# Altium footprint library Connector_PinSocket_2.00mm.PcbLib: 278 footprints (part 10 of 18)
Each footprint in its own frame and in the unit in brackets; x right, y up, seen from the top. Pads: shape width x height; smd on the part's side, far side on the other; paste and mask are expansions set on the pad; w line width, h text height; cw(c..) or ccw(c..) is an arc to the next point about the centre after c.
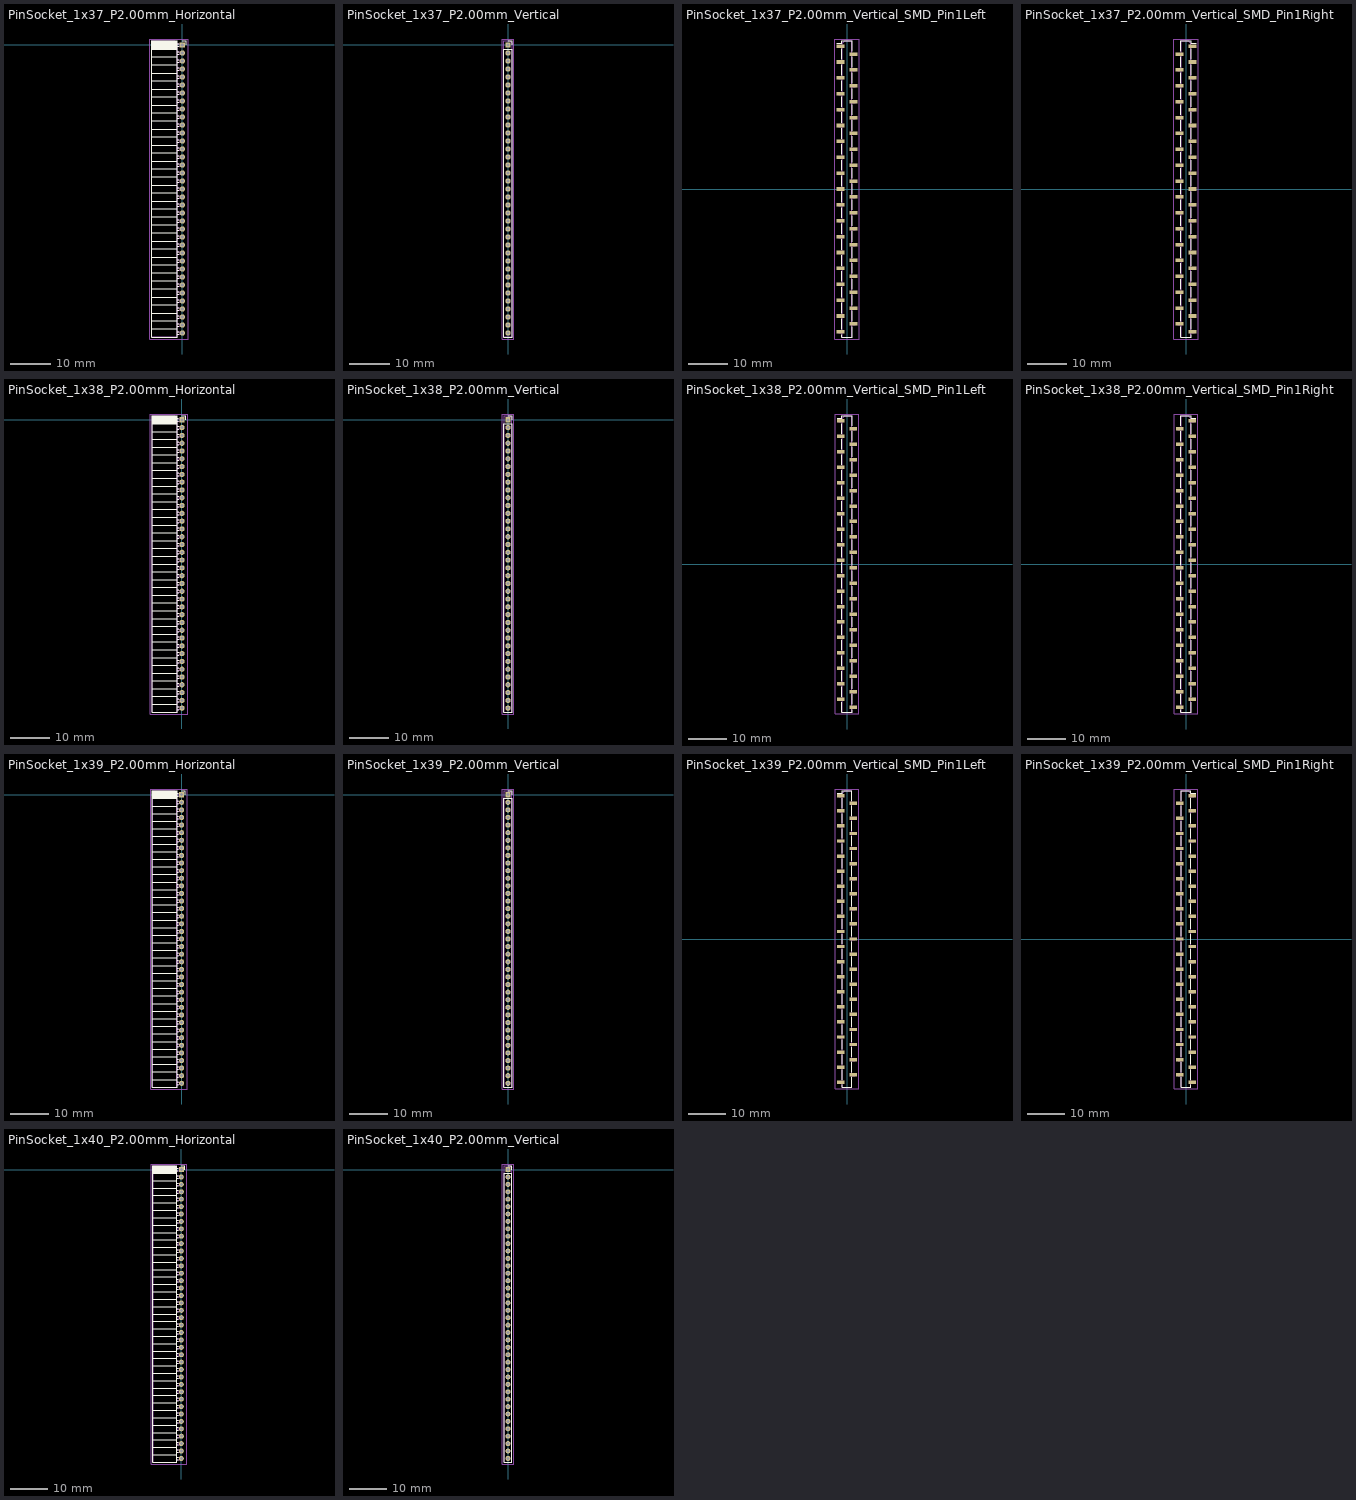
[diagram p9: the footprints below, top view; thin cyan lines are the x and y axes]

## PinSocket_1x37_P2.00mm_Horizontal [mm]
pads (37):
  rect 1.35x1.35 hole 0.8: 1(0,0)
  round 1.35 hole 0.8: 2(0,-2) 3(0,-4) 4(0,-6) 5(0,-8) 6(0,-10) 7(0,-12) 8(0,-14) 9(0,-16) 10(0,-18) 11(0,-20) 12(0,-22) 13(0,-24) 14(0,-26) 15(0,-28) 16(0,-30) 17(0,-32) 18(0,-34) 19(0,-36) 20(0,-38) 21(0,-40) 22(0,-42) 23(0,-44) 24(0,-46) 25(0,-48) 26(0,-50) 27(0,-52) 28(0,-54) 29(0,-56) 30(0,-58) 31(0,-60) 32(0,-62) 33(0,-64) 34(0,-66) 35(0,-68) 36(0,-70) 37(0,-72)
F.SilkS:
  lines w0.254: -7.68,-71 -1.21,-71 ; -7.68,-69 -1.21,-69 ; -7.68,-67 -1.21,-67 ; -7.68,-65 -1.21,-65 ; -7.68,-63 -1.21,-63 ; -7.68,-61 -1.21,-61 ; -7.68,-59 -1.21,-59 ; -7.68,-57 -1.21,-57 ; -7.68,-55 -1.21,-55 ; -7.68,-53 -1.21,-53 ; -7.68,-51 -1.21,-51 ; -7.68,-49 -1.21,-49 ; -7.68,-47 -1.21,-47 ; -7.68,-45 -1.21,-45 ; -7.68,-43 -1.21,-43 ; -7.68,-41 -1.21,-41 ; -7.68,-39 -1.21,-39 ; -7.68,-37 -1.21,-37 ; -7.68,-35 -1.21,-35 ; -7.68,-33 -1.21,-33 ; -7.68,-31 -1.21,-31 ; -7.68,-29 -1.21,-29 ; -7.68,-27 -1.21,-27 ; -7.68,-25 -1.21,-25 ; -7.68,-23 -1.21,-23 ; -7.68,-21 -1.21,-21 ; -7.68,-19 -1.21,-19 ; -7.68,-17 -1.21,-17 ; -7.68,-15 -1.21,-15 ; -7.68,-13 -1.21,-13 ; -7.68,-11 -1.21,-11 ; -7.68,-9 -1.21,-9 ; -7.68,-7 -1.21,-7 ; -7.68,-5 -1.21,-5 ; -7.68,-3 -1.21,-3 ; -7.68,-1 -1.21,-1 ; -7.68,-0.886 -1.21,-0.886 ; -7.68,-0.772 -1.21,-0.772 ; -7.68,-0.658 -1.21,-0.658 ; -7.68,-0.544 -1.21,-0.544 ; -7.68,-0.429 -1.21,-0.429 ; -7.68,-0.315 -1.21,-0.315 ; -7.68,-0.201 -1.21,-0.201 ; -7.68,-0.087 -1.21,-0.087 ; -7.68,0.027 -1.21,0.027 ; -7.68,0.141 -1.21,0.141 ; -7.68,0.255 -1.21,0.255 ; -7.68,0.369 -1.21,0.369 ; -7.68,0.484 -1.21,0.484 ; -7.68,0.598 -1.21,0.598 ; -7.68,0.712 -1.21,0.712 ; -7.68,0.826 -1.21,0.826 ; -7.68,0.94 -1.21,0.94 ; -1.21,-72.36 -0.863,-72.36 ; -1.21,-71.64 -0.863,-71.64 ; -1.21,-70.36 -0.863,-70.36 ; -1.21,-69.64 -0.863,-69.64 ; -1.21,-68.36 -0.863,-68.36 ; -1.21,-67.64 -0.863,-67.64 ; -1.21,-66.36 -0.863,-66.36 ; -1.21,-65.64 -0.863,-65.64 ; -1.21,-64.36 -0.863,-64.36 ; -1.21,-63.64 -0.863,-63.64 ; -1.21,-62.36 -0.863,-62.36 ; -1.21,-61.64 -0.863,-61.64 ; -1.21,-60.36 -0.863,-60.36 ; -1.21,-59.64 -0.863,-59.64 ; -1.21,-58.36 -0.863,-58.36 ; -1.21,-57.64 -0.863,-57.64 ; -1.21,-56.36 -0.863,-56.36 ; -1.21,-55.64 -0.863,-55.64 ; -1.21,-54.36 -0.863,-54.36 ; -1.21,-53.64 -0.863,-53.64 ; -1.21,-52.36 -0.863,-52.36 ; -1.21,-51.64 -0.863,-51.64 ; -1.21,-50.36 -0.863,-50.36 ; -1.21,-49.64 -0.863,-49.64 ; -1.21,-48.36 -0.863,-48.36 ; -1.21,-47.64 -0.863,-47.64 ; -1.21,-46.36 -0.863,-46.36 ; -1.21,-45.64 -0.863,-45.64 ; -1.21,-44.36 -0.863,-44.36 ; -1.21,-43.64 -0.863,-43.64 ; -1.21,-42.36 -0.863,-42.36 ; -1.21,-41.64 -0.863,-41.64 ; -1.21,-40.36 -0.863,-40.36 ; -1.21,-39.64 -0.863,-39.64 ; -1.21,-38.36 -0.863,-38.36 ; -1.21,-37.64 -0.863,-37.64 ; -1.21,-36.36 -0.863,-36.36 ; -1.21,-35.64 -0.863,-35.64 ; -1.21,-34.36 -0.863,-34.36 ; -1.21,-33.64 -0.863,-33.64 ; -1.21,-32.36 -0.863,-32.36 ; -1.21,-31.64 -0.863,-31.64 ; -1.21,-30.36 -0.863,-30.36 ; -1.21,-29.64 -0.863,-29.64 ; -1.21,-28.36 -0.863,-28.36 ; -1.21,-27.64 -0.863,-27.64 ; -1.21,-26.36 -0.863,-26.36 ; -1.21,-25.64 -0.863,-25.64 ; -1.21,-24.36 -0.863,-24.36 ; -1.21,-23.64 -0.863,-23.64 ; -1.21,-22.36 -0.863,-22.36 ; -1.21,-21.64 -0.863,-21.64 ; -1.21,-20.36 -0.863,-20.36 ; -1.21,-19.64 -0.863,-19.64 ; -1.21,-18.36 -0.863,-18.36 ; -1.21,-17.64 -0.863,-17.64 ; -1.21,-16.36 -0.863,-16.36 ; -1.21,-15.64 -0.863,-15.64 ; -1.21,-14.36 -0.863,-14.36 ; -1.21,-13.64 -0.863,-13.64 ; -1.21,-12.36 -0.863,-12.36 ; -1.21,-11.64 -0.863,-11.64 ; -1.21,-10.36 -0.863,-10.36 ; -1.21,-9.64 -0.863,-9.64 ; -1.21,-8.36 -0.863,-8.36 ; -1.21,-7.64 -0.863,-7.64 ; -1.21,-6.36 -0.863,-6.36 ; -1.21,-5.64 -0.863,-5.64 ; -1.21,-4.36 -0.863,-4.36 ; -1.21,-3.64 -0.863,-3.64 ; -1.21,-2.36 -0.863,-2.36 ; -1.21,-1.64 -0.863,-1.64 ; -1.21,-0.36 -0.935,-0.36 ; -1.21,0.36 -0.935,0.36 ; 0,1.06 0.935,1.06 0.935,0 ; -7.68,-73.06 -1.21,-73.06 -1.21,1.06 -7.68,1.06 -7.68,-73.06
Top Assembly:
  lines w0.254: -1.27,-72.3 0,-72.3 0,-71.7 -1.27,-71.7 ; -1.27,-70.3 0,-70.3 0,-69.7 -1.27,-69.7 ; -1.27,-68.3 0,-68.3 0,-67.7 -1.27,-67.7 ; -1.27,-66.3 0,-66.3 0,-65.7 -1.27,-65.7 ; -1.27,-64.3 0,-64.3 0,-63.7 -1.27,-63.7 ; -1.27,-62.3 0,-62.3 0,-61.7 -1.27,-61.7 ; -1.27,-60.3 0,-60.3 0,-59.7 -1.27,-59.7 ; -1.27,-58.3 0,-58.3 0,-57.7 -1.27,-57.7 ; -1.27,-56.3 0,-56.3 0,-55.7 -1.27,-55.7 ; -1.27,-54.3 0,-54.3 0,-53.7 -1.27,-53.7 ; -1.27,-52.3 0,-52.3 0,-51.7 -1.27,-51.7 ; -1.27,-50.3 0,-50.3 0,-49.7 -1.27,-49.7 ; -1.27,-48.3 0,-48.3 0,-47.7 -1.27,-47.7 ; -1.27,-46.3 0,-46.3 0,-45.7 -1.27,-45.7 ; -1.27,-44.3 0,-44.3 0,-43.7 -1.27,-43.7 ; -1.27,-42.3 0,-42.3 0,-41.7 -1.27,-41.7 ; -1.27,-40.3 0,-40.3 0,-39.7 -1.27,-39.7 ; -1.27,-38.3 0,-38.3 0,-37.7 -1.27,-37.7 ; -1.27,-36.3 0,-36.3 0,-35.7 -1.27,-35.7 ; -1.27,-34.3 0,-34.3 0,-33.7 -1.27,-33.7 ; -1.27,-32.3 0,-32.3 0,-31.7 -1.27,-31.7 ; -1.27,-30.3 0,-30.3 0,-29.7 -1.27,-29.7 ; -1.27,-28.3 0,-28.3 0,-27.7 -1.27,-27.7 ; -1.27,-26.3 0,-26.3 0,-25.7 -1.27,-25.7 ; -1.27,-24.3 0,-24.3 0,-23.7 -1.27,-23.7 ; -1.27,-22.3 0,-22.3 0,-21.7 -1.27,-21.7 ; -1.27,-20.3 0,-20.3 0,-19.7 -1.27,-19.7 ; -1.27,-18.3 0,-18.3 0,-17.7 -1.27,-17.7 ; -1.27,-16.3 0,-16.3 0,-15.7 -1.27,-15.7 ; -1.27,-14.3 0,-14.3 0,-13.7 -1.27,-13.7 ; -1.27,-12.3 0,-12.3 0,-11.7 -1.27,-11.7 ; -1.27,-10.3 0,-10.3 0,-9.7 -1.27,-9.7 ; -1.27,-8.3 0,-8.3 0,-7.7 -1.27,-7.7 ; -1.27,-6.3 0,-6.3 0,-5.7 -1.27,-5.7 ; -1.27,-4.3 0,-4.3 0,-3.7 -1.27,-3.7 ; -1.27,-2.3 0,-2.3 0,-1.7 -1.27,-1.7 ; -1.27,-0.3 0,-0.3 0,0.3 -1.27,0.3 ; -1.27,0.3 -1.27,-73 -7.62,-73 -7.62,1 -1.97,1 -1.27,0.3
  text "'.Designator'" at -3.605,-40.047 h1
Top Courtyard:
  lines w0.254: -8.15,-73.5 1.5,-73.5 1.5,1.5 -8.15,1.5 -8.15,-73.5
Top Designator:
  text ".Designator" at -10.943,-36.508 h1.52

## PinSocket_1x37_P2.00mm_Vertical [mm]
pads (37):
  rect 1.35x1.35 hole 0.8: 1(0,0)
  round 1.35 hole 0.8: 2(0,-2) 3(0,-4) 4(0,-6) 5(0,-8) 6(0,-10) 7(0,-12) 8(0,-14) 9(0,-16) 10(0,-18) 11(0,-20) 12(0,-22) 13(0,-24) 14(0,-26) 15(0,-28) 16(0,-30) 17(0,-32) 18(0,-34) 19(0,-36) 20(0,-38) 21(0,-40) 22(0,-42) 23(0,-44) 24(0,-46) 25(0,-48) 26(0,-50) 27(0,-52) 28(0,-54) 29(0,-56) 30(0,-58) 31(0,-60) 32(0,-62) 33(0,-64) 34(0,-66) 35(0,-68) 36(0,-70) 37(0,-72)
F.SilkS:
  lines w0.254: 0,1.06 1.06,1.06 1.06,0 ; -1.06,-73.06 1.06,-73.06 1.06,-1 -1.06,-1 -1.06,-73.06
Top Assembly:
  lines w0.254: -1,-73 1,-73 1,0.5 0.5,1 -1,1 -1,-73
  text "'.Designator'" at 0.84,-40.047 h1
Top Courtyard:
  lines w0.254: -1.5,-73.5 1.5,-73.5 1.5,1.5 -1.5,1.5 -1.5,-73.5
Top Designator:
  text ".Designator" at -7.618,-36.508 h1.52

## PinSocket_1x37_P2.00mm_Vertical_SMD_Pin1Left [mm]
pads (37):
  rect 2x0.9 smd: 1(-1.6,36) 2(1.6,34) 3(-1.6,32) 4(1.6,30) 5(-1.6,28) 6(1.6,26) 7(-1.6,24) 8(1.6,22) 9(-1.6,20) 10(1.6,18) 11(-1.6,16) 12(1.6,14) 13(-1.6,12) 14(1.6,10) 15(-1.6,8) 16(1.6,6) 17(-1.6,4) 18(1.6,2) 19(-1.6,0) 20(1.6,-2) 21(-1.6,-4) 22(1.6,-6) 23(-1.6,-8) 24(1.6,-10) 25(-1.6,-12) 26(1.6,-14) 27(-1.6,-16) 28(1.6,-18) 29(-1.6,-20) 30(1.6,-22) 31(-1.6,-24) 32(1.6,-26) 33(-1.6,-28) 34(1.6,-30) 35(-1.6,-32) 36(1.6,-34) 37(-1.6,-36)
F.SilkS:
  lines w0.254: -2.54,36.71 -1.31,36.71 -1.31,37.36 1.31,37.36 1.31,34.71 ; -1.31,-36.71 -1.31,-37.36 1.31,-37.36 1.31,-34.71 ; -1.31,-35.29 -1.31,-32.71 ; -1.31,-31.29 -1.31,-28.71 ; -1.31,-27.29 -1.31,-24.71 ; -1.31,-23.29 -1.31,-20.71 ; -1.31,-19.29 -1.31,-16.71 ; -1.31,-15.29 -1.31,-12.71 ; -1.31,-11.29 -1.31,-8.71 ; -1.31,-7.29 -1.31,-4.71 ; -1.31,-3.29 -1.31,-0.71 ; -1.31,0.71 -1.31,3.29 ; -1.31,4.71 -1.31,7.29 ; -1.31,8.71 -1.31,11.29 ; -1.31,12.71 -1.31,15.29 ; -1.31,16.71 -1.31,19.29 ; -1.31,20.71 -1.31,23.29 ; -1.31,24.71 -1.31,27.29 ; -1.31,28.71 -1.31,31.29 ; -1.31,32.71 -1.31,35.29 ; 1.31,-33.29 1.31,-30.71 ; 1.31,-29.29 1.31,-26.71 ; 1.31,-25.29 1.31,-22.71 ; 1.31,-21.29 1.31,-18.71 ; 1.31,-17.29 1.31,-14.71 ; 1.31,-13.29 1.31,-10.71 ; 1.31,-9.29 1.31,-6.71 ; 1.31,-5.29 1.31,-2.71 ; 1.31,-1.29 1.31,1.29 ; 1.31,2.71 1.31,5.29 ; 1.31,6.71 1.31,9.29 ; 1.31,10.71 1.31,13.29 ; 1.31,14.71 1.31,17.29 ; 1.31,18.71 1.31,21.29 ; 1.31,22.71 1.31,25.29 ; 1.31,26.71 1.31,29.29 ; 1.31,30.71 1.31,33.29
Top Assembly:
  lines w0.254: -1.25,-36.25 -2.1,-36.25 -2.1,-35.75 -1.25,-35.75 ; -1.25,-32.25 -2.1,-32.25 -2.1,-31.75 -1.25,-31.75 ; -1.25,-28.25 -2.1,-28.25 -2.1,-27.75 -1.25,-27.75 ; -1.25,-24.25 -2.1,-24.25 -2.1,-23.75 -1.25,-23.75 ; -1.25,-20.25 -2.1,-20.25 -2.1,-19.75 -1.25,-19.75 ; -1.25,-16.25 -2.1,-16.25 -2.1,-15.75 -1.25,-15.75 ; -1.25,-12.25 -2.1,-12.25 -2.1,-11.75 -1.25,-11.75 ; -1.25,-8.25 -2.1,-8.25 -2.1,-7.75 -1.25,-7.75 ; -1.25,-4.25 -2.1,-4.25 -2.1,-3.75 -1.25,-3.75 ; -1.25,-0.25 -2.1,-0.25 -2.1,0.25 -1.25,0.25 ; -1.25,3.75 -2.1,3.75 -2.1,4.25 -1.25,4.25 ; -1.25,7.75 -2.1,7.75 -2.1,8.25 -1.25,8.25 ; -1.25,11.75 -2.1,11.75 -2.1,12.25 -1.25,12.25 ; -1.25,15.75 -2.1,15.75 -2.1,16.25 -1.25,16.25 ; -1.25,19.75 -2.1,19.75 -2.1,20.25 -1.25,20.25 ; -1.25,23.75 -2.1,23.75 -2.1,24.25 -1.25,24.25 ; -1.25,27.75 -2.1,27.75 -2.1,28.25 -1.25,28.25 ; -1.25,31.75 -2.1,31.75 -2.1,32.25 -1.25,32.25 ; -1.25,35.75 -2.1,35.75 -2.1,36.25 -1.25,36.25 ; 1.25,-34.25 2.1,-34.25 2.1,-33.75 1.25,-33.75 ; 1.25,-30.25 2.1,-30.25 2.1,-29.75 1.25,-29.75 ; 1.25,-26.25 2.1,-26.25 2.1,-25.75 1.25,-25.75 ; 1.25,-22.25 2.1,-22.25 2.1,-21.75 1.25,-21.75 ; 1.25,-18.25 2.1,-18.25 2.1,-17.75 1.25,-17.75 ; 1.25,-14.25 2.1,-14.25 2.1,-13.75 1.25,-13.75 ; 1.25,-10.25 2.1,-10.25 2.1,-9.75 1.25,-9.75 ; 1.25,-6.25 2.1,-6.25 2.1,-5.75 1.25,-5.75 ; 1.25,-2.25 2.1,-2.25 2.1,-1.75 1.25,-1.75 ; 1.25,1.75 2.1,1.75 2.1,2.25 1.25,2.25 ; 1.25,5.75 2.1,5.75 2.1,6.25 1.25,6.25 ; 1.25,9.75 2.1,9.75 2.1,10.25 1.25,10.25 ; 1.25,13.75 2.1,13.75 2.1,14.25 1.25,14.25 ; 1.25,17.75 2.1,17.75 2.1,18.25 1.25,18.25 ; 1.25,21.75 2.1,21.75 2.1,22.25 1.25,22.25 ; 1.25,25.75 2.1,25.75 2.1,26.25 1.25,26.25 ; 1.25,29.75 2.1,29.75 2.1,30.25 1.25,30.25 ; 1.25,33.75 2.1,33.75 2.1,34.25 1.25,34.25 ; -1.25,-37.3 1.25,-37.3 1.25,37.3 -0.625,37.3 -1.25,36.675 -1.25,-37.3
  text "'.Designator'" at 0.84,-4.047 h1
Top Courtyard:
  lines w0.254: -3.1,-37.8 3.1,-37.8 3.1,37.8 -3.1,37.8 -3.1,-37.8
Top Designator:
  text ".Designator" at -7.618,-0.508 h1.52

## PinSocket_1x37_P2.00mm_Vertical_SMD_Pin1Right [mm]
pads (37):
  rect 2x0.9 smd: 1(1.6,36) 2(-1.6,34) 3(1.6,32) 4(-1.6,30) 5(1.6,28) 6(-1.6,26) 7(1.6,24) 8(-1.6,22) 9(1.6,20) 10(-1.6,18) 11(1.6,16) 12(-1.6,14) 13(1.6,12) 14(-1.6,10) 15(1.6,8) 16(-1.6,6) 17(1.6,4) 18(-1.6,2) 19(1.6,0) 20(-1.6,-2) 21(1.6,-4) 22(-1.6,-6) 23(1.6,-8) 24(-1.6,-10) 25(1.6,-12) 26(-1.6,-14) 27(1.6,-16) 28(-1.6,-18) 29(1.6,-20) 30(-1.6,-22) 31(1.6,-24) 32(-1.6,-26) 33(1.6,-28) 34(-1.6,-30) 35(1.6,-32) 36(-1.6,-34) 37(1.6,-36)
F.SilkS:
  lines w0.254: -1.31,-34.71 -1.31,-37.36 1.31,-37.36 1.31,-36.71 ; -1.31,-33.29 -1.31,-30.71 ; -1.31,-29.29 -1.31,-26.71 ; -1.31,-25.29 -1.31,-22.71 ; -1.31,-21.29 -1.31,-18.71 ; -1.31,-17.29 -1.31,-14.71 ; -1.31,-13.29 -1.31,-10.71 ; -1.31,-9.29 -1.31,-6.71 ; -1.31,-5.29 -1.31,-2.71 ; -1.31,-1.29 -1.31,1.29 ; -1.31,2.71 -1.31,5.29 ; -1.31,6.71 -1.31,9.29 ; -1.31,10.71 -1.31,13.29 ; -1.31,14.71 -1.31,17.29 ; -1.31,18.71 -1.31,21.29 ; -1.31,22.71 -1.31,25.29 ; -1.31,26.71 -1.31,29.29 ; -1.31,30.71 -1.31,33.29 ; -1.31,34.71 -1.31,37.36 1.31,37.36 1.31,36.71 2.54,36.71 ; 1.31,-35.29 1.31,-32.71 ; 1.31,-31.29 1.31,-28.71 ; 1.31,-27.29 1.31,-24.71 ; 1.31,-23.29 1.31,-20.71 ; 1.31,-19.29 1.31,-16.71 ; 1.31,-15.29 1.31,-12.71 ; 1.31,-11.29 1.31,-8.71 ; 1.31,-7.29 1.31,-4.71 ; 1.31,-3.29 1.31,-0.71 ; 1.31,0.71 1.31,3.29 ; 1.31,4.71 1.31,7.29 ; 1.31,8.71 1.31,11.29 ; 1.31,12.71 1.31,15.29 ; 1.31,16.71 1.31,19.29 ; 1.31,20.71 1.31,23.29 ; 1.31,24.71 1.31,27.29 ; 1.31,28.71 1.31,31.29 ; 1.31,32.71 1.31,35.29
Top Assembly:
  lines w0.254: -1.25,-34.25 -2.1,-34.25 -2.1,-33.75 -1.25,-33.75 ; -1.25,-30.25 -2.1,-30.25 -2.1,-29.75 -1.25,-29.75 ; -1.25,-26.25 -2.1,-26.25 -2.1,-25.75 -1.25,-25.75 ; -1.25,-22.25 -2.1,-22.25 -2.1,-21.75 -1.25,-21.75 ; -1.25,-18.25 -2.1,-18.25 -2.1,-17.75 -1.25,-17.75 ; -1.25,-14.25 -2.1,-14.25 -2.1,-13.75 -1.25,-13.75 ; -1.25,-10.25 -2.1,-10.25 -2.1,-9.75 -1.25,-9.75 ; -1.25,-6.25 -2.1,-6.25 -2.1,-5.75 -1.25,-5.75 ; -1.25,-2.25 -2.1,-2.25 -2.1,-1.75 -1.25,-1.75 ; -1.25,1.75 -2.1,1.75 -2.1,2.25 -1.25,2.25 ; -1.25,5.75 -2.1,5.75 -2.1,6.25 -1.25,6.25 ; -1.25,9.75 -2.1,9.75 -2.1,10.25 -1.25,10.25 ; -1.25,13.75 -2.1,13.75 -2.1,14.25 -1.25,14.25 ; -1.25,17.75 -2.1,17.75 -2.1,18.25 -1.25,18.25 ; -1.25,21.75 -2.1,21.75 -2.1,22.25 -1.25,22.25 ; -1.25,25.75 -2.1,25.75 -2.1,26.25 -1.25,26.25 ; -1.25,29.75 -2.1,29.75 -2.1,30.25 -1.25,30.25 ; -1.25,33.75 -2.1,33.75 -2.1,34.25 -1.25,34.25 ; 1.25,-36.25 2.1,-36.25 2.1,-35.75 1.25,-35.75 ; 1.25,-32.25 2.1,-32.25 2.1,-31.75 1.25,-31.75 ; 1.25,-28.25 2.1,-28.25 2.1,-27.75 1.25,-27.75 ; 1.25,-24.25 2.1,-24.25 2.1,-23.75 1.25,-23.75 ; 1.25,-20.25 2.1,-20.25 2.1,-19.75 1.25,-19.75 ; 1.25,-16.25 2.1,-16.25 2.1,-15.75 1.25,-15.75 ; 1.25,-12.25 2.1,-12.25 2.1,-11.75 1.25,-11.75 ; 1.25,-8.25 2.1,-8.25 2.1,-7.75 1.25,-7.75 ; 1.25,-4.25 2.1,-4.25 2.1,-3.75 1.25,-3.75 ; 1.25,-0.25 2.1,-0.25 2.1,0.25 1.25,0.25 ; 1.25,3.75 2.1,3.75 2.1,4.25 1.25,4.25 ; 1.25,7.75 2.1,7.75 2.1,8.25 1.25,8.25 ; 1.25,11.75 2.1,11.75 2.1,12.25 1.25,12.25 ; 1.25,15.75 2.1,15.75 2.1,16.25 1.25,16.25 ; 1.25,19.75 2.1,19.75 2.1,20.25 1.25,20.25 ; 1.25,23.75 2.1,23.75 2.1,24.25 1.25,24.25 ; 1.25,27.75 2.1,27.75 2.1,28.25 1.25,28.25 ; 1.25,31.75 2.1,31.75 2.1,32.25 1.25,32.25 ; 1.25,35.75 2.1,35.75 2.1,36.25 1.25,36.25 ; -1.25,-37.3 1.25,-37.3 1.25,36.675 0.625,37.3 -1.25,37.3 -1.25,-37.3
  text "'.Designator'" at 0.84,-4.047 h1
Top Courtyard:
  lines w0.254: -3.1,-37.8 3.1,-37.8 3.1,37.8 -3.1,37.8 -3.1,-37.8
Top Designator:
  text ".Designator" at -7.618,-0.508 h1.52

## PinSocket_1x38_P2.00mm_Horizontal [mm]
pads (38):
  rect 1.35x1.35 hole 0.8: 1(0,0)
  round 1.35 hole 0.8: 2(0,-2) 3(0,-4) 4(0,-6) 5(0,-8) 6(0,-10) 7(0,-12) 8(0,-14) 9(0,-16) 10(0,-18) 11(0,-20) 12(0,-22) 13(0,-24) 14(0,-26) 15(0,-28) 16(0,-30) 17(0,-32) 18(0,-34) 19(0,-36) 20(0,-38) 21(0,-40) 22(0,-42) 23(0,-44) 24(0,-46) 25(0,-48) 26(0,-50) 27(0,-52) 28(0,-54) 29(0,-56) 30(0,-58) 31(0,-60) 32(0,-62) 33(0,-64) 34(0,-66) 35(0,-68) 36(0,-70) 37(0,-72) 38(0,-74)
F.SilkS:
  lines w0.254: -7.68,-73 -1.21,-73 ; -7.68,-71 -1.21,-71 ; -7.68,-69 -1.21,-69 ; -7.68,-67 -1.21,-67 ; -7.68,-65 -1.21,-65 ; -7.68,-63 -1.21,-63 ; -7.68,-61 -1.21,-61 ; -7.68,-59 -1.21,-59 ; -7.68,-57 -1.21,-57 ; -7.68,-55 -1.21,-55 ; -7.68,-53 -1.21,-53 ; -7.68,-51 -1.21,-51 ; -7.68,-49 -1.21,-49 ; -7.68,-47 -1.21,-47 ; -7.68,-45 -1.21,-45 ; -7.68,-43 -1.21,-43 ; -7.68,-41 -1.21,-41 ; -7.68,-39 -1.21,-39 ; -7.68,-37 -1.21,-37 ; -7.68,-35 -1.21,-35 ; -7.68,-33 -1.21,-33 ; -7.68,-31 -1.21,-31 ; -7.68,-29 -1.21,-29 ; -7.68,-27 -1.21,-27 ; -7.68,-25 -1.21,-25 ; -7.68,-23 -1.21,-23 ; -7.68,-21 -1.21,-21 ; -7.68,-19 -1.21,-19 ; -7.68,-17 -1.21,-17 ; -7.68,-15 -1.21,-15 ; -7.68,-13 -1.21,-13 ; -7.68,-11 -1.21,-11 ; -7.68,-9 -1.21,-9 ; -7.68,-7 -1.21,-7 ; -7.68,-5 -1.21,-5 ; -7.68,-3 -1.21,-3 ; -7.68,-1 -1.21,-1 ; -7.68,-0.886 -1.21,-0.886 ; -7.68,-0.772 -1.21,-0.772 ; -7.68,-0.658 -1.21,-0.658 ; -7.68,-0.544 -1.21,-0.544 ; -7.68,-0.429 -1.21,-0.429 ; -7.68,-0.315 -1.21,-0.315 ; -7.68,-0.201 -1.21,-0.201 ; -7.68,-0.087 -1.21,-0.087 ; -7.68,0.027 -1.21,0.027 ; -7.68,0.141 -1.21,0.141 ; -7.68,0.255 -1.21,0.255 ; -7.68,0.369 -1.21,0.369 ; -7.68,0.484 -1.21,0.484 ; -7.68,0.598 -1.21,0.598 ; -7.68,0.712 -1.21,0.712 ; -7.68,0.826 -1.21,0.826 ; -7.68,0.94 -1.21,0.94 ; -1.21,-74.36 -0.863,-74.36 ; -1.21,-73.64 -0.863,-73.64 ; -1.21,-72.36 -0.863,-72.36 ; -1.21,-71.64 -0.863,-71.64 ; -1.21,-70.36 -0.863,-70.36 ; -1.21,-69.64 -0.863,-69.64 ; -1.21,-68.36 -0.863,-68.36 ; -1.21,-67.64 -0.863,-67.64 ; -1.21,-66.36 -0.863,-66.36 ; -1.21,-65.64 -0.863,-65.64 ; -1.21,-64.36 -0.863,-64.36 ; -1.21,-63.64 -0.863,-63.64 ; -1.21,-62.36 -0.863,-62.36 ; -1.21,-61.64 -0.863,-61.64 ; -1.21,-60.36 -0.863,-60.36 ; -1.21,-59.64 -0.863,-59.64 ; -1.21,-58.36 -0.863,-58.36 ; -1.21,-57.64 -0.863,-57.64 ; -1.21,-56.36 -0.863,-56.36 ; -1.21,-55.64 -0.863,-55.64 ; -1.21,-54.36 -0.863,-54.36 ; -1.21,-53.64 -0.863,-53.64 ; -1.21,-52.36 -0.863,-52.36 ; -1.21,-51.64 -0.863,-51.64 ; -1.21,-50.36 -0.863,-50.36 ; -1.21,-49.64 -0.863,-49.64 ; -1.21,-48.36 -0.863,-48.36 ; -1.21,-47.64 -0.863,-47.64 ; -1.21,-46.36 -0.863,-46.36 ; -1.21,-45.64 -0.863,-45.64 ; -1.21,-44.36 -0.863,-44.36 ; -1.21,-43.64 -0.863,-43.64 ; -1.21,-42.36 -0.863,-42.36 ; -1.21,-41.64 -0.863,-41.64 ; -1.21,-40.36 -0.863,-40.36 ; -1.21,-39.64 -0.863,-39.64 ; -1.21,-38.36 -0.863,-38.36 ; -1.21,-37.64 -0.863,-37.64 ; -1.21,-36.36 -0.863,-36.36 ; -1.21,-35.64 -0.863,-35.64 ; -1.21,-34.36 -0.863,-34.36 ; -1.21,-33.64 -0.863,-33.64 ; -1.21,-32.36 -0.863,-32.36 ; -1.21,-31.64 -0.863,-31.64 ; -1.21,-30.36 -0.863,-30.36 ; -1.21,-29.64 -0.863,-29.64 ; -1.21,-28.36 -0.863,-28.36 ; -1.21,-27.64 -0.863,-27.64 ; -1.21,-26.36 -0.863,-26.36 ; -1.21,-25.64 -0.863,-25.64 ; -1.21,-24.36 -0.863,-24.36 ; -1.21,-23.64 -0.863,-23.64 ; -1.21,-22.36 -0.863,-22.36 ; -1.21,-21.64 -0.863,-21.64 ; -1.21,-20.36 -0.863,-20.36 ; -1.21,-19.64 -0.863,-19.64 ; -1.21,-18.36 -0.863,-18.36 ; -1.21,-17.64 -0.863,-17.64 ; -1.21,-16.36 -0.863,-16.36 ; -1.21,-15.64 -0.863,-15.64 ; -1.21,-14.36 -0.863,-14.36 ; -1.21,-13.64 -0.863,-13.64 ; -1.21,-12.36 -0.863,-12.36 ; -1.21,-11.64 -0.863,-11.64 ; -1.21,-10.36 -0.863,-10.36 ; -1.21,-9.64 -0.863,-9.64 ; -1.21,-8.36 -0.863,-8.36 ; -1.21,-7.64 -0.863,-7.64 ; -1.21,-6.36 -0.863,-6.36 ; -1.21,-5.64 -0.863,-5.64 ; -1.21,-4.36 -0.863,-4.36 ; -1.21,-3.64 -0.863,-3.64 ; -1.21,-2.36 -0.863,-2.36 ; -1.21,-1.64 -0.863,-1.64 ; -1.21,-0.36 -0.935,-0.36 ; -1.21,0.36 -0.935,0.36 ; 0,1.06 0.935,1.06 0.935,0 ; -7.68,-75.06 -1.21,-75.06 -1.21,1.06 -7.68,1.06 -7.68,-75.06
Top Assembly:
  lines w0.254: -1.27,-74.3 0,-74.3 0,-73.7 -1.27,-73.7 ; -1.27,-72.3 0,-72.3 0,-71.7 -1.27,-71.7 ; -1.27,-70.3 0,-70.3 0,-69.7 -1.27,-69.7 ; -1.27,-68.3 0,-68.3 0,-67.7 -1.27,-67.7 ; -1.27,-66.3 0,-66.3 0,-65.7 -1.27,-65.7 ; -1.27,-64.3 0,-64.3 0,-63.7 -1.27,-63.7 ; -1.27,-62.3 0,-62.3 0,-61.7 -1.27,-61.7 ; -1.27,-60.3 0,-60.3 0,-59.7 -1.27,-59.7 ; -1.27,-58.3 0,-58.3 0,-57.7 -1.27,-57.7 ; -1.27,-56.3 0,-56.3 0,-55.7 -1.27,-55.7 ; -1.27,-54.3 0,-54.3 0,-53.7 -1.27,-53.7 ; -1.27,-52.3 0,-52.3 0,-51.7 -1.27,-51.7 ; -1.27,-50.3 0,-50.3 0,-49.7 -1.27,-49.7 ; -1.27,-48.3 0,-48.3 0,-47.7 -1.27,-47.7 ; -1.27,-46.3 0,-46.3 0,-45.7 -1.27,-45.7 ; -1.27,-44.3 0,-44.3 0,-43.7 -1.27,-43.7 ; -1.27,-42.3 0,-42.3 0,-41.7 -1.27,-41.7 ; -1.27,-40.3 0,-40.3 0,-39.7 -1.27,-39.7 ; -1.27,-38.3 0,-38.3 0,-37.7 -1.27,-37.7 ; -1.27,-36.3 0,-36.3 0,-35.7 -1.27,-35.7 ; -1.27,-34.3 0,-34.3 0,-33.7 -1.27,-33.7 ; -1.27,-32.3 0,-32.3 0,-31.7 -1.27,-31.7 ; -1.27,-30.3 0,-30.3 0,-29.7 -1.27,-29.7 ; -1.27,-28.3 0,-28.3 0,-27.7 -1.27,-27.7 ; -1.27,-26.3 0,-26.3 0,-25.7 -1.27,-25.7 ; -1.27,-24.3 0,-24.3 0,-23.7 -1.27,-23.7 ; -1.27,-22.3 0,-22.3 0,-21.7 -1.27,-21.7 ; -1.27,-20.3 0,-20.3 0,-19.7 -1.27,-19.7 ; -1.27,-18.3 0,-18.3 0,-17.7 -1.27,-17.7 ; -1.27,-16.3 0,-16.3 0,-15.7 -1.27,-15.7 ; -1.27,-14.3 0,-14.3 0,-13.7 -1.27,-13.7 ; -1.27,-12.3 0,-12.3 0,-11.7 -1.27,-11.7 ; -1.27,-10.3 0,-10.3 0,-9.7 -1.27,-9.7 ; -1.27,-8.3 0,-8.3 0,-7.7 -1.27,-7.7 ; -1.27,-6.3 0,-6.3 0,-5.7 -1.27,-5.7 ; -1.27,-4.3 0,-4.3 0,-3.7 -1.27,-3.7 ; -1.27,-2.3 0,-2.3 0,-1.7 -1.27,-1.7 ; -1.27,-0.3 0,-0.3 0,0.3 -1.27,0.3 ; -1.27,0.3 -1.27,-75 -7.62,-75 -7.62,1 -1.97,1 -1.27,0.3
  text "'.Designator'" at -3.605,-41.047 h1
Top Courtyard:
  lines w0.254: -8.15,-75.5 1.5,-75.5 1.5,1.5 -8.15,1.5 -8.15,-75.5
Top Designator:
  text ".Designator" at -10.943,-37.508 h1.52

## PinSocket_1x38_P2.00mm_Vertical [mm]
pads (38):
  rect 1.35x1.35 hole 0.8: 1(0,0)
  round 1.35 hole 0.8: 2(0,-2) 3(0,-4) 4(0,-6) 5(0,-8) 6(0,-10) 7(0,-12) 8(0,-14) 9(0,-16) 10(0,-18) 11(0,-20) 12(0,-22) 13(0,-24) 14(0,-26) 15(0,-28) 16(0,-30) 17(0,-32) 18(0,-34) 19(0,-36) 20(0,-38) 21(0,-40) 22(0,-42) 23(0,-44) 24(0,-46) 25(0,-48) 26(0,-50) 27(0,-52) 28(0,-54) 29(0,-56) 30(0,-58) 31(0,-60) 32(0,-62) 33(0,-64) 34(0,-66) 35(0,-68) 36(0,-70) 37(0,-72) 38(0,-74)
F.SilkS:
  lines w0.254: 0,1.06 1.06,1.06 1.06,0 ; -1.06,-75.06 1.06,-75.06 1.06,-1 -1.06,-1 -1.06,-75.06
Top Assembly:
  lines w0.254: -1,-75 1,-75 1,0.5 0.5,1 -1,1 -1,-75
  text "'.Designator'" at 0.84,-41.047 h1
Top Courtyard:
  lines w0.254: -1.5,-75.5 1.5,-75.5 1.5,1.5 -1.5,1.5 -1.5,-75.5
Top Designator:
  text ".Designator" at -7.618,-37.508 h1.52

## PinSocket_1x38_P2.00mm_Vertical_SMD_Pin1Left [mm]
pads (38):
  rect 2x0.9 smd: 1(-1.6,37) 2(1.6,35) 3(-1.6,33) 4(1.6,31) 5(-1.6,29) 6(1.6,27) 7(-1.6,25) 8(1.6,23) 9(-1.6,21) 10(1.6,19) 11(-1.6,17) 12(1.6,15) 13(-1.6,13) 14(1.6,11) 15(-1.6,9) 16(1.6,7) 17(-1.6,5) 18(1.6,3) 19(-1.6,1) 20(1.6,-1) 21(-1.6,-3) 22(1.6,-5) 23(-1.6,-7) 24(1.6,-9) 25(-1.6,-11) 26(1.6,-13) 27(-1.6,-15) 28(1.6,-17) 29(-1.6,-19) 30(1.6,-21) 31(-1.6,-23) 32(1.6,-25) 33(-1.6,-27) 34(1.6,-29) 35(-1.6,-31) 36(1.6,-33) 37(-1.6,-35) 38(1.6,-37)
F.SilkS:
  lines w0.254: -2.54,37.71 -1.31,37.71 -1.31,38.36 1.31,38.36 1.31,35.71 ; -1.31,-35.71 -1.31,-38.36 1.31,-38.36 1.31,-37.71 ; -1.31,-34.29 -1.31,-31.71 ; -1.31,-30.29 -1.31,-27.71 ; -1.31,-26.29 -1.31,-23.71 ; -1.31,-22.29 -1.31,-19.71 ; -1.31,-18.29 -1.31,-15.71 ; -1.31,-14.29 -1.31,-11.71 ; -1.31,-10.29 -1.31,-7.71 ; -1.31,-6.29 -1.31,-3.71 ; -1.31,-2.29 -1.31,0.29 ; -1.31,1.71 -1.31,4.29 ; -1.31,5.71 -1.31,8.29 ; -1.31,9.71 -1.31,12.29 ; -1.31,13.71 -1.31,16.29 ; -1.31,17.71 -1.31,20.29 ; -1.31,21.71 -1.31,24.29 ; -1.31,25.71 -1.31,28.29 ; -1.31,29.71 -1.31,32.29 ; -1.31,33.71 -1.31,36.29 ; 1.31,-36.29 1.31,-33.71 ; 1.31,-32.29 1.31,-29.71 ; 1.31,-28.29 1.31,-25.71 ; 1.31,-24.29 1.31,-21.71 ; 1.31,-20.29 1.31,-17.71 ; 1.31,-16.29 1.31,-13.71 ; 1.31,-12.29 1.31,-9.71 ; 1.31,-8.29 1.31,-5.71 ; 1.31,-4.29 1.31,-1.71 ; 1.31,-0.29 1.31,2.29 ; 1.31,3.71 1.31,6.29 ; 1.31,7.71 1.31,10.29 ; 1.31,11.71 1.31,14.29 ; 1.31,15.71 1.31,18.29 ; 1.31,19.71 1.31,22.29 ; 1.31,23.71 1.31,26.29 ; 1.31,27.71 1.31,30.29 ; 1.31,31.71 1.31,34.29
Top Assembly:
  lines w0.254: -1.25,-35.25 -2.1,-35.25 -2.1,-34.75 -1.25,-34.75 ; -1.25,-31.25 -2.1,-31.25 -2.1,-30.75 -1.25,-30.75 ; -1.25,-27.25 -2.1,-27.25 -2.1,-26.75 -1.25,-26.75 ; -1.25,-23.25 -2.1,-23.25 -2.1,-22.75 -1.25,-22.75 ; -1.25,-19.25 -2.1,-19.25 -2.1,-18.75 -1.25,-18.75 ; -1.25,-15.25 -2.1,-15.25 -2.1,-14.75 -1.25,-14.75 ; -1.25,-11.25 -2.1,-11.25 -2.1,-10.75 -1.25,-10.75 ; -1.25,-7.25 -2.1,-7.25 -2.1,-6.75 -1.25,-6.75 ; -1.25,-3.25 -2.1,-3.25 -2.1,-2.75 -1.25,-2.75 ; -1.25,0.75 -2.1,0.75 -2.1,1.25 -1.25,1.25 ; -1.25,4.75 -2.1,4.75 -2.1,5.25 -1.25,5.25 ; -1.25,8.75 -2.1,8.75 -2.1,9.25 -1.25,9.25 ; -1.25,12.75 -2.1,12.75 -2.1,13.25 -1.25,13.25 ; -1.25,16.75 -2.1,16.75 -2.1,17.25 -1.25,17.25 ; -1.25,20.75 -2.1,20.75 -2.1,21.25 -1.25,21.25 ; -1.25,24.75 -2.1,24.75 -2.1,25.25 -1.25,25.25 ; -1.25,28.75 -2.1,28.75 -2.1,29.25 -1.25,29.25 ; -1.25,32.75 -2.1,32.75 -2.1,33.25 -1.25,33.25 ; -1.25,36.75 -2.1,36.75 -2.1,37.25 -1.25,37.25 ; 1.25,-37.25 2.1,-37.25 2.1,-36.75 1.25,-36.75 ; 1.25,-33.25 2.1,-33.25 2.1,-32.75 1.25,-32.75 ; 1.25,-29.25 2.1,-29.25 2.1,-28.75 1.25,-28.75 ; 1.25,-25.25 2.1,-25.25 2.1,-24.75 1.25,-24.75 ; 1.25,-21.25 2.1,-21.25 2.1,-20.75 1.25,-20.75 ; 1.25,-17.25 2.1,-17.25 2.1,-16.75 1.25,-16.75 ; 1.25,-13.25 2.1,-13.25 2.1,-12.75 1.25,-12.75 ; 1.25,-9.25 2.1,-9.25 2.1,-8.75 1.25,-8.75 ; 1.25,-5.25 2.1,-5.25 2.1,-4.75 1.25,-4.75 ; 1.25,-1.25 2.1,-1.25 2.1,-0.75 1.25,-0.75 ; 1.25,2.75 2.1,2.75 2.1,3.25 1.25,3.25 ; 1.25,6.75 2.1,6.75 2.1,7.25 1.25,7.25 ; 1.25,10.75 2.1,10.75 2.1,11.25 1.25,11.25 ; 1.25,14.75 2.1,14.75 2.1,15.25 1.25,15.25 ; 1.25,18.75 2.1,18.75 2.1,19.25 1.25,19.25 ; 1.25,22.75 2.1,22.75 2.1,23.25 1.25,23.25 ; 1.25,26.75 2.1,26.75 2.1,27.25 1.25,27.25 ; 1.25,30.75 2.1,30.75 2.1,31.25 1.25,31.25 ; 1.25,34.75 2.1,34.75 2.1,35.25 1.25,35.25 ; -1.25,-38.3 1.25,-38.3 1.25,38.3 -0.625,38.3 -1.25,37.675 -1.25,-38.3
  text "'.Designator'" at 0.84,-4.047 h1
Top Courtyard:
  lines w0.254: -3.1,-38.8 3.1,-38.8 3.1,38.8 -3.1,38.8 -3.1,-38.8
Top Designator:
  text ".Designator" at -7.618,-0.508 h1.52

## PinSocket_1x38_P2.00mm_Vertical_SMD_Pin1Right [mm]
pads (38):
  rect 2x0.9 smd: 1(1.6,37) 2(-1.6,35) 3(1.6,33) 4(-1.6,31) 5(1.6,29) 6(-1.6,27) 7(1.6,25) 8(-1.6,23) 9(1.6,21) 10(-1.6,19) 11(1.6,17) 12(-1.6,15) 13(1.6,13) 14(-1.6,11) 15(1.6,9) 16(-1.6,7) 17(1.6,5) 18(-1.6,3) 19(1.6,1) 20(-1.6,-1) 21(1.6,-3) 22(-1.6,-5) 23(1.6,-7) 24(-1.6,-9) 25(1.6,-11) 26(-1.6,-13) 27(1.6,-15) 28(-1.6,-17) 29(1.6,-19) 30(-1.6,-21) 31(1.6,-23) 32(-1.6,-25) 33(1.6,-27) 34(-1.6,-29) 35(1.6,-31) 36(-1.6,-33) 37(1.6,-35) 38(-1.6,-37)
F.SilkS:
  lines w0.254: -1.31,-37.71 -1.31,-38.36 1.31,-38.36 1.31,-35.71 ; -1.31,-36.29 -1.31,-33.71 ; -1.31,-32.29 -1.31,-29.71 ; -1.31,-28.29 -1.31,-25.71 ; -1.31,-24.29 -1.31,-21.71 ; -1.31,-20.29 -1.31,-17.71 ; -1.31,-16.29 -1.31,-13.71 ; -1.31,-12.29 -1.31,-9.71 ; -1.31,-8.29 -1.31,-5.71 ; -1.31,-4.29 -1.31,-1.71 ; -1.31,-0.29 -1.31,2.29 ; -1.31,3.71 -1.31,6.29 ; -1.31,7.71 -1.31,10.29 ; -1.31,11.71 -1.31,14.29 ; -1.31,15.71 -1.31,18.29 ; -1.31,19.71 -1.31,22.29 ; -1.31,23.71 -1.31,26.29 ; -1.31,27.71 -1.31,30.29 ; -1.31,31.71 -1.31,34.29 ; -1.31,35.71 -1.31,38.36 1.31,38.36 1.31,37.71 2.54,37.71 ; 1.31,-34.29 1.31,-31.71 ; 1.31,-30.29 1.31,-27.71 ; 1.31,-26.29 1.31,-23.71 ; 1.31,-22.29 1.31,-19.71 ; 1.31,-18.29 1.31,-15.71 ; 1.31,-14.29 1.31,-11.71 ; 1.31,-10.29 1.31,-7.71 ; 1.31,-6.29 1.31,-3.71 ; 1.31,-2.29 1.31,0.29 ; 1.31,1.71 1.31,4.29 ; 1.31,5.71 1.31,8.29 ; 1.31,9.71 1.31,12.29 ; 1.31,13.71 1.31,16.29 ; 1.31,17.71 1.31,20.29 ; 1.31,21.71 1.31,24.29 ; 1.31,25.71 1.31,28.29 ; 1.31,29.71 1.31,32.29 ; 1.31,33.71 1.31,36.29
Top Assembly:
  lines w0.254: -1.25,-37.25 -2.1,-37.25 -2.1,-36.75 -1.25,-36.75 ; -1.25,-33.25 -2.1,-33.25 -2.1,-32.75 -1.25,-32.75 ; -1.25,-29.25 -2.1,-29.25 -2.1,-28.75 -1.25,-28.75 ; -1.25,-25.25 -2.1,-25.25 -2.1,-24.75 -1.25,-24.75 ; -1.25,-21.25 -2.1,-21.25 -2.1,-20.75 -1.25,-20.75 ; -1.25,-17.25 -2.1,-17.25 -2.1,-16.75 -1.25,-16.75 ; -1.25,-13.25 -2.1,-13.25 -2.1,-12.75 -1.25,-12.75 ; -1.25,-9.25 -2.1,-9.25 -2.1,-8.75 -1.25,-8.75 ; -1.25,-5.25 -2.1,-5.25 -2.1,-4.75 -1.25,-4.75 ; -1.25,-1.25 -2.1,-1.25 -2.1,-0.75 -1.25,-0.75 ; -1.25,2.75 -2.1,2.75 -2.1,3.25 -1.25,3.25 ; -1.25,6.75 -2.1,6.75 -2.1,7.25 -1.25,7.25 ; -1.25,10.75 -2.1,10.75 -2.1,11.25 -1.25,11.25 ; -1.25,14.75 -2.1,14.75 -2.1,15.25 -1.25,15.25 ; -1.25,18.75 -2.1,18.75 -2.1,19.25 -1.25,19.25 ; -1.25,22.75 -2.1,22.75 -2.1,23.25 -1.25,23.25 ; -1.25,26.75 -2.1,26.75 -2.1,27.25 -1.25,27.25 ; -1.25,30.75 -2.1,30.75 -2.1,31.25 -1.25,31.25 ; -1.25,34.75 -2.1,34.75 -2.1,35.25 -1.25,35.25 ; 1.25,-35.25 2.1,-35.25 2.1,-34.75 1.25,-34.75 ; 1.25,-31.25 2.1,-31.25 2.1,-30.75 1.25,-30.75 ; 1.25,-27.25 2.1,-27.25 2.1,-26.75 1.25,-26.75 ; 1.25,-23.25 2.1,-23.25 2.1,-22.75 1.25,-22.75 ; 1.25,-19.25 2.1,-19.25 2.1,-18.75 1.25,-18.75 ; 1.25,-15.25 2.1,-15.25 2.1,-14.75 1.25,-14.75 ; 1.25,-11.25 2.1,-11.25 2.1,-10.75 1.25,-10.75 ; 1.25,-7.25 2.1,-7.25 2.1,-6.75 1.25,-6.75 ; 1.25,-3.25 2.1,-3.25 2.1,-2.75 1.25,-2.75 ; 1.25,0.75 2.1,0.75 2.1,1.25 1.25,1.25 ; 1.25,4.75 2.1,4.75 2.1,5.25 1.25,5.25 ; 1.25,8.75 2.1,8.75 2.1,9.25 1.25,9.25 ; 1.25,12.75 2.1,12.75 2.1,13.25 1.25,13.25 ; 1.25,16.75 2.1,16.75 2.1,17.25 1.25,17.25 ; 1.25,20.75 2.1,20.75 2.1,21.25 1.25,21.25 ; 1.25,24.75 2.1,24.75 2.1,25.25 1.25,25.25 ; 1.25,28.75 2.1,28.75 2.1,29.25 1.25,29.25 ; 1.25,32.75 2.1,32.75 2.1,33.25 1.25,33.25 ; 1.25,36.75 2.1,36.75 2.1,37.25 1.25,37.25 ; -1.25,-38.3 1.25,-38.3 1.25,37.675 0.625,38.3 -1.25,38.3 -1.25,-38.3
  text "'.Designator'" at 0.84,-4.047 h1
Top Courtyard:
  lines w0.254: -3.1,-38.8 3.1,-38.8 3.1,38.8 -3.1,38.8 -3.1,-38.8
Top Designator:
  text ".Designator" at -7.618,-0.508 h1.52

## PinSocket_1x39_P2.00mm_Horizontal [mm]
pads (39):
  rect 1.35x1.35 hole 0.8: 1(0,0)
  round 1.35 hole 0.8: 2(0,-2) 3(0,-4) 4(0,-6) 5(0,-8) 6(0,-10) 7(0,-12) 8(0,-14) 9(0,-16) 10(0,-18) 11(0,-20) 12(0,-22) 13(0,-24) 14(0,-26) 15(0,-28) 16(0,-30) 17(0,-32) 18(0,-34) 19(0,-36) 20(0,-38) 21(0,-40) 22(0,-42) 23(0,-44) 24(0,-46) 25(0,-48) 26(0,-50) 27(0,-52) 28(0,-54) 29(0,-56) 30(0,-58) 31(0,-60) 32(0,-62) 33(0,-64) 34(0,-66) 35(0,-68) 36(0,-70) 37(0,-72) 38(0,-74) 39(0,-76)
F.SilkS:
  lines w0.254: -7.68,-75 -1.21,-75 ; -7.68,-73 -1.21,-73 ; -7.68,-71 -1.21,-71 ; -7.68,-69 -1.21,-69 ; -7.68,-67 -1.21,-67 ; -7.68,-65 -1.21,-65 ; -7.68,-63 -1.21,-63 ; -7.68,-61 -1.21,-61 ; -7.68,-59 -1.21,-59 ; -7.68,-57 -1.21,-57 ; -7.68,-55 -1.21,-55 ; -7.68,-53 -1.21,-53 ; -7.68,-51 -1.21,-51 ; -7.68,-49 -1.21,-49 ; -7.68,-47 -1.21,-47 ; -7.68,-45 -1.21,-45 ; -7.68,-43 -1.21,-43 ; -7.68,-41 -1.21,-41 ; -7.68,-39 -1.21,-39 ; -7.68,-37 -1.21,-37 ; -7.68,-35 -1.21,-35 ; -7.68,-33 -1.21,-33 ; -7.68,-31 -1.21,-31 ; -7.68,-29 -1.21,-29 ; -7.68,-27 -1.21,-27 ; -7.68,-25 -1.21,-25 ; -7.68,-23 -1.21,-23 ; -7.68,-21 -1.21,-21 ; -7.68,-19 -1.21,-19 ; -7.68,-17 -1.21,-17 ; -7.68,-15 -1.21,-15 ; -7.68,-13 -1.21,-13 ; -7.68,-11 -1.21,-11 ; -7.68,-9 -1.21,-9 ; -7.68,-7 -1.21,-7 ; -7.68,-5 -1.21,-5 ; -7.68,-3 -1.21,-3 ; -7.68,-1 -1.21,-1 ; -7.68,-0.886 -1.21,-0.886 ; -7.68,-0.772 -1.21,-0.772 ; -7.68,-0.658 -1.21,-0.658 ; -7.68,-0.544 -1.21,-0.544 ; -7.68,-0.429 -1.21,-0.429 ; -7.68,-0.315 -1.21,-0.315 ; -7.68,-0.201 -1.21,-0.201 ; -7.68,-0.087 -1.21,-0.087 ; -7.68,0.027 -1.21,0.027 ; -7.68,0.141 -1.21,0.141 ; -7.68,0.255 -1.21,0.255 ; -7.68,0.369 -1.21,0.369 ; -7.68,0.484 -1.21,0.484 ; -7.68,0.598 -1.21,0.598 ; -7.68,0.712 -1.21,0.712 ; -7.68,0.826 -1.21,0.826 ; -7.68,0.94 -1.21,0.94 ; -1.21,-76.36 -0.863,-76.36 ; -1.21,-75.64 -0.863,-75.64 ; -1.21,-74.36 -0.863,-74.36 ; -1.21,-73.64 -0.863,-73.64 ; -1.21,-72.36 -0.863,-72.36 ; -1.21,-71.64 -0.863,-71.64 ; -1.21,-70.36 -0.863,-70.36 ; -1.21,-69.64 -0.863,-69.64 ; -1.21,-68.36 -0.863,-68.36 ; -1.21,-67.64 -0.863,-67.64 ; -1.21,-66.36 -0.863,-66.36 ; -1.21,-65.64 -0.863,-65.64 ; -1.21,-64.36 -0.863,-64.36 ; -1.21,-63.64 -0.863,-63.64 ; -1.21,-62.36 -0.863,-62.36 ; -1.21,-61.64 -0.863,-61.64 ; -1.21,-60.36 -0.863,-60.36 ; -1.21,-59.64 -0.863,-59.64 ; -1.21,-58.36 -0.863,-58.36 ; -1.21,-57.64 -0.863,-57.64 ; -1.21,-56.36 -0.863,-56.36 ; -1.21,-55.64 -0.863,-55.64 ; -1.21,-54.36 -0.863,-54.36 ; -1.21,-53.64 -0.863,-53.64 ; -1.21,-52.36 -0.863,-52.36 ; -1.21,-51.64 -0.863,-51.64 ; -1.21,-50.36 -0.863,-50.36 ; -1.21,-49.64 -0.863,-49.64 ; -1.21,-48.36 -0.863,-48.36 ; -1.21,-47.64 -0.863,-47.64 ; -1.21,-46.36 -0.863,-46.36 ; -1.21,-45.64 -0.863,-45.64 ; -1.21,-44.36 -0.863,-44.36 ; -1.21,-43.64 -0.863,-43.64 ; -1.21,-42.36 -0.863,-42.36 ; -1.21,-41.64 -0.863,-41.64 ; -1.21,-40.36 -0.863,-40.36 ; -1.21,-39.64 -0.863,-39.64 ; -1.21,-38.36 -0.863,-38.36 ; -1.21,-37.64 -0.863,-37.64 ; -1.21,-36.36 -0.863,-36.36 ; -1.21,-35.64 -0.863,-35.64 ; -1.21,-34.36 -0.863,-34.36 ; -1.21,-33.64 -0.863,-33.64 ; -1.21,-32.36 -0.863,-32.36 ; -1.21,-31.64 -0.863,-31.64 ; -1.21,-30.36 -0.863,-30.36 ; -1.21,-29.64 -0.863,-29.64 ; -1.21,-28.36 -0.863,-28.36 ; -1.21,-27.64 -0.863,-27.64 ; -1.21,-26.36 -0.863,-26.36 ; -1.21,-25.64 -0.863,-25.64 ; -1.21,-24.36 -0.863,-24.36 ; -1.21,-23.64 -0.863,-23.64 ; -1.21,-22.36 -0.863,-22.36 ; -1.21,-21.64 -0.863,-21.64 ; -1.21,-20.36 -0.863,-20.36 ; -1.21,-19.64 -0.863,-19.64 ; -1.21,-18.36 -0.863,-18.36 ; -1.21,-17.64 -0.863,-17.64 ; -1.21,-16.36 -0.863,-16.36 ; -1.21,-15.64 -0.863,-15.64 ; -1.21,-14.36 -0.863,-14.36 ; -1.21,-13.64 -0.863,-13.64 ; -1.21,-12.36 -0.863,-12.36 ; -1.21,-11.64 -0.863,-11.64 ; -1.21,-10.36 -0.863,-10.36 ; -1.21,-9.64 -0.863,-9.64 ; -1.21,-8.36 -0.863,-8.36 ; -1.21,-7.64 -0.863,-7.64 ; -1.21,-6.36 -0.863,-6.36 ; -1.21,-5.64 -0.863,-5.64 ; -1.21,-4.36 -0.863,-4.36 ; -1.21,-3.64 -0.863,-3.64 ; -1.21,-2.36 -0.863,-2.36 ; -1.21,-1.64 -0.863,-1.64 ; -1.21,-0.36 -0.935,-0.36 ; -1.21,0.36 -0.935,0.36 ; 0,1.06 0.935,1.06 0.935,0 ; -7.68,-77.06 -1.21,-77.06 -1.21,1.06 -7.68,1.06 -7.68,-77.06
Top Assembly:
  lines w0.254: -1.27,-76.3 0,-76.3 0,-75.7 -1.27,-75.7 ; -1.27,-74.3 0,-74.3 0,-73.7 -1.27,-73.7 ; -1.27,-72.3 0,-72.3 0,-71.7 -1.27,-71.7 ; -1.27,-70.3 0,-70.3 0,-69.7 -1.27,-69.7 ; -1.27,-68.3 0,-68.3 0,-67.7 -1.27,-67.7 ; -1.27,-66.3 0,-66.3 0,-65.7 -1.27,-65.7 ; -1.27,-64.3 0,-64.3 0,-63.7 -1.27,-63.7 ; -1.27,-62.3 0,-62.3 0,-61.7 -1.27,-61.7 ; -1.27,-60.3 0,-60.3 0,-59.7 -1.27,-59.7 ; -1.27,-58.3 0,-58.3 0,-57.7 -1.27,-57.7 ; -1.27,-56.3 0,-56.3 0,-55.7 -1.27,-55.7 ; -1.27,-54.3 0,-54.3 0,-53.7 -1.27,-53.7 ; -1.27,-52.3 0,-52.3 0,-51.7 -1.27,-51.7 ; -1.27,-50.3 0,-50.3 0,-49.7 -1.27,-49.7 ; -1.27,-48.3 0,-48.3 0,-47.7 -1.27,-47.7 ; -1.27,-46.3 0,-46.3 0,-45.7 -1.27,-45.7 ; -1.27,-44.3 0,-44.3 0,-43.7 -1.27,-43.7 ; -1.27,-42.3 0,-42.3 0,-41.7 -1.27,-41.7 ; -1.27,-40.3 0,-40.3 0,-39.7 -1.27,-39.7 ; -1.27,-38.3 0,-38.3 0,-37.7 -1.27,-37.7 ; -1.27,-36.3 0,-36.3 0,-35.7 -1.27,-35.7 ; -1.27,-34.3 0,-34.3 0,-33.7 -1.27,-33.7 ; -1.27,-32.3 0,-32.3 0,-31.7 -1.27,-31.7 ; -1.27,-30.3 0,-30.3 0,-29.7 -1.27,-29.7 ; -1.27,-28.3 0,-28.3 0,-27.7 -1.27,-27.7 ; -1.27,-26.3 0,-26.3 0,-25.7 -1.27,-25.7 ; -1.27,-24.3 0,-24.3 0,-23.7 -1.27,-23.7 ; -1.27,-22.3 0,-22.3 0,-21.7 -1.27,-21.7 ; -1.27,-20.3 0,-20.3 0,-19.7 -1.27,-19.7 ; -1.27,-18.3 0,-18.3 0,-17.7 -1.27,-17.7 ; -1.27,-16.3 0,-16.3 0,-15.7 -1.27,-15.7 ; -1.27,-14.3 0,-14.3 0,-13.7 -1.27,-13.7 ; -1.27,-12.3 0,-12.3 0,-11.7 -1.27,-11.7 ; -1.27,-10.3 0,-10.3 0,-9.7 -1.27,-9.7 ; -1.27,-8.3 0,-8.3 0,-7.7 -1.27,-7.7 ; -1.27,-6.3 0,-6.3 0,-5.7 -1.27,-5.7 ; -1.27,-4.3 0,-4.3 0,-3.7 -1.27,-3.7 ; -1.27,-2.3 0,-2.3 0,-1.7 -1.27,-1.7 ; -1.27,-0.3 0,-0.3 0,0.3 -1.27,0.3 ; -1.27,0.3 -1.27,-77 -7.62,-77 -7.62,1 -1.97,1 -1.27,0.3
  text "'.Designator'" at -3.605,-42.047 h1
Top Courtyard:
  lines w0.254: -8.15,-77.5 1.5,-77.5 1.5,1.5 -8.15,1.5 -8.15,-77.5
Top Designator:
  text ".Designator" at -10.943,-38.508 h1.52

## PinSocket_1x39_P2.00mm_Vertical [mm]
pads (39):
  rect 1.35x1.35 hole 0.8: 1(0,0)
  round 1.35 hole 0.8: 2(0,-2) 3(0,-4) 4(0,-6) 5(0,-8) 6(0,-10) 7(0,-12) 8(0,-14) 9(0,-16) 10(0,-18) 11(0,-20) 12(0,-22) 13(0,-24) 14(0,-26) 15(0,-28) 16(0,-30) 17(0,-32) 18(0,-34) 19(0,-36) 20(0,-38) 21(0,-40) 22(0,-42) 23(0,-44) 24(0,-46) 25(0,-48) 26(0,-50) 27(0,-52) 28(0,-54) 29(0,-56) 30(0,-58) 31(0,-60) 32(0,-62) 33(0,-64) 34(0,-66) 35(0,-68) 36(0,-70) 37(0,-72) 38(0,-74) 39(0,-76)
F.SilkS:
  lines w0.254: 0,1.06 1.06,1.06 1.06,0 ; -1.06,-77.06 1.06,-77.06 1.06,-1 -1.06,-1 -1.06,-77.06
Top Assembly:
  lines w0.254: -1,-77 1,-77 1,0.5 0.5,1 -1,1 -1,-77
  text "'.Designator'" at 0.84,-42.047 h1
Top Courtyard:
  lines w0.254: -1.5,-77.5 1.5,-77.5 1.5,1.5 -1.5,1.5 -1.5,-77.5
Top Designator:
  text ".Designator" at -7.618,-38.508 h1.52

## PinSocket_1x39_P2.00mm_Vertical_SMD_Pin1Left [mm]
pads (39):
  rect 2x0.9 smd: 1(-1.6,38) 2(1.6,36) 3(-1.6,34) 4(1.6,32) 5(-1.6,30) 6(1.6,28) 7(-1.6,26) 8(1.6,24) 9(-1.6,22) 10(1.6,20) 11(-1.6,18) 12(1.6,16) 13(-1.6,14) 14(1.6,12) 15(-1.6,10) 16(1.6,8) 17(-1.6,6) 18(1.6,4) 19(-1.6,2) 20(1.6,0) 21(-1.6,-2) 22(1.6,-4) 23(-1.6,-6) 24(1.6,-8) 25(-1.6,-10) 26(1.6,-12) 27(-1.6,-14) 28(1.6,-16) 29(-1.6,-18) 30(1.6,-20) 31(-1.6,-22) 32(1.6,-24) 33(-1.6,-26) 34(1.6,-28) 35(-1.6,-30) 36(1.6,-32) 37(-1.6,-34) 38(1.6,-36) 39(-1.6,-38)
F.SilkS:
  lines w0.254: -2.54,38.71 -1.31,38.71 -1.31,39.36 1.31,39.36 1.31,36.71 ; -1.31,-38.71 -1.31,-39.36 1.31,-39.36 1.31,-36.71 ; -1.31,-37.29 -1.31,-34.71 ; -1.31,-33.29 -1.31,-30.71 ; -1.31,-29.29 -1.31,-26.71 ; -1.31,-25.29 -1.31,-22.71 ; -1.31,-21.29 -1.31,-18.71 ; -1.31,-17.29 -1.31,-14.71 ; -1.31,-13.29 -1.31,-10.71 ; -1.31,-9.29 -1.31,-6.71 ; -1.31,-5.29 -1.31,-2.71 ; -1.31,-1.29 -1.31,1.29 ; -1.31,2.71 -1.31,5.29 ; -1.31,6.71 -1.31,9.29 ; -1.31,10.71 -1.31,13.29 ; -1.31,14.71 -1.31,17.29 ; -1.31,18.71 -1.31,21.29 ; -1.31,22.71 -1.31,25.29 ; -1.31,26.71 -1.31,29.29 ; -1.31,30.71 -1.31,33.29 ; -1.31,34.71 -1.31,37.29 ; 1.31,-35.29 1.31,-32.71 ; 1.31,-31.29 1.31,-28.71 ; 1.31,-27.29 1.31,-24.71 ; 1.31,-23.29 1.31,-20.71 ; 1.31,-19.29 1.31,-16.71 ; 1.31,-15.29 1.31,-12.71 ; 1.31,-11.29 1.31,-8.71 ; 1.31,-7.29 1.31,-4.71 ; 1.31,-3.29 1.31,-0.71 ; 1.31,0.71 1.31,3.29 ; 1.31,4.71 1.31,7.29 ; 1.31,8.71 1.31,11.29 ; 1.31,12.71 1.31,15.29 ; 1.31,16.71 1.31,19.29 ; 1.31,20.71 1.31,23.29 ; 1.31,24.71 1.31,27.29 ; 1.31,28.71 1.31,31.29 ; 1.31,32.71 1.31,35.29
Top Assembly:
  lines w0.254: -1.25,-38.25 -2.1,-38.25 -2.1,-37.75 -1.25,-37.75 ; -1.25,-34.25 -2.1,-34.25 -2.1,-33.75 -1.25,-33.75 ; -1.25,-30.25 -2.1,-30.25 -2.1,-29.75 -1.25,-29.75 ; -1.25,-26.25 -2.1,-26.25 -2.1,-25.75 -1.25,-25.75 ; -1.25,-22.25 -2.1,-22.25 -2.1,-21.75 -1.25,-21.75 ; -1.25,-18.25 -2.1,-18.25 -2.1,-17.75 -1.25,-17.75 ; -1.25,-14.25 -2.1,-14.25 -2.1,-13.75 -1.25,-13.75 ; -1.25,-10.25 -2.1,-10.25 -2.1,-9.75 -1.25,-9.75 ; -1.25,-6.25 -2.1,-6.25 -2.1,-5.75 -1.25,-5.75 ; -1.25,-2.25 -2.1,-2.25 -2.1,-1.75 -1.25,-1.75 ; -1.25,1.75 -2.1,1.75 -2.1,2.25 -1.25,2.25 ; -1.25,5.75 -2.1,5.75 -2.1,6.25 -1.25,6.25 ; -1.25,9.75 -2.1,9.75 -2.1,10.25 -1.25,10.25 ; -1.25,13.75 -2.1,13.75 -2.1,14.25 -1.25,14.25 ; -1.25,17.75 -2.1,17.75 -2.1,18.25 -1.25,18.25 ; -1.25,21.75 -2.1,21.75 -2.1,22.25 -1.25,22.25 ; -1.25,25.75 -2.1,25.75 -2.1,26.25 -1.25,26.25 ; -1.25,29.75 -2.1,29.75 -2.1,30.25 -1.25,30.25 ; -1.25,33.75 -2.1,33.75 -2.1,34.25 -1.25,34.25 ; -1.25,37.75 -2.1,37.75 -2.1,38.25 -1.25,38.25 ; 1.25,-36.25 2.1,-36.25 2.1,-35.75 1.25,-35.75 ; 1.25,-32.25 2.1,-32.25 2.1,-31.75 1.25,-31.75 ; 1.25,-28.25 2.1,-28.25 2.1,-27.75 1.25,-27.75 ; 1.25,-24.25 2.1,-24.25 2.1,-23.75 1.25,-23.75 ; 1.25,-20.25 2.1,-20.25 2.1,-19.75 1.25,-19.75 ; 1.25,-16.25 2.1,-16.25 2.1,-15.75 1.25,-15.75 ; 1.25,-12.25 2.1,-12.25 2.1,-11.75 1.25,-11.75 ; 1.25,-8.25 2.1,-8.25 2.1,-7.75 1.25,-7.75 ; 1.25,-4.25 2.1,-4.25 2.1,-3.75 1.25,-3.75 ; 1.25,-0.25 2.1,-0.25 2.1,0.25 1.25,0.25 ; 1.25,3.75 2.1,3.75 2.1,4.25 1.25,4.25 ; 1.25,7.75 2.1,7.75 2.1,8.25 1.25,8.25 ; 1.25,11.75 2.1,11.75 2.1,12.25 1.25,12.25 ; 1.25,15.75 2.1,15.75 2.1,16.25 1.25,16.25 ; 1.25,19.75 2.1,19.75 2.1,20.25 1.25,20.25 ; 1.25,23.75 2.1,23.75 2.1,24.25 1.25,24.25 ; 1.25,27.75 2.1,27.75 2.1,28.25 1.25,28.25 ; 1.25,31.75 2.1,31.75 2.1,32.25 1.25,32.25 ; 1.25,35.75 2.1,35.75 2.1,36.25 1.25,36.25 ; -1.25,-39.3 1.25,-39.3 1.25,39.3 -0.625,39.3 -1.25,38.675 -1.25,-39.3
  text "'.Designator'" at 0.84,-4.047 h1
Top Courtyard:
  lines w0.254: -3.1,-39.8 3.1,-39.8 3.1,39.8 -3.1,39.8 -3.1,-39.8
Top Designator:
  text ".Designator" at -7.618,-0.508 h1.52

## PinSocket_1x39_P2.00mm_Vertical_SMD_Pin1Right [mm]
pads (39):
  rect 2x0.9 smd: 1(1.6,38) 2(-1.6,36) 3(1.6,34) 4(-1.6,32) 5(1.6,30) 6(-1.6,28) 7(1.6,26) 8(-1.6,24) 9(1.6,22) 10(-1.6,20) 11(1.6,18) 12(-1.6,16) 13(1.6,14) 14(-1.6,12) 15(1.6,10) 16(-1.6,8) 17(1.6,6) 18(-1.6,4) 19(1.6,2) 20(-1.6,0) 21(1.6,-2) 22(-1.6,-4) 23(1.6,-6) 24(-1.6,-8) 25(1.6,-10) 26(-1.6,-12) 27(1.6,-14) 28(-1.6,-16) 29(1.6,-18) 30(-1.6,-20) 31(1.6,-22) 32(-1.6,-24) 33(1.6,-26) 34(-1.6,-28) 35(1.6,-30) 36(-1.6,-32) 37(1.6,-34) 38(-1.6,-36) 39(1.6,-38)
F.SilkS:
  lines w0.254: -1.31,-36.71 -1.31,-39.36 1.31,-39.36 1.31,-38.71 ; -1.31,-35.29 -1.31,-32.71 ; -1.31,-31.29 -1.31,-28.71 ; -1.31,-27.29 -1.31,-24.71 ; -1.31,-23.29 -1.31,-20.71 ; -1.31,-19.29 -1.31,-16.71 ; -1.31,-15.29 -1.31,-12.71 ; -1.31,-11.29 -1.31,-8.71 ; -1.31,-7.29 -1.31,-4.71 ; -1.31,-3.29 -1.31,-0.71 ; -1.31,0.71 -1.31,3.29 ; -1.31,4.71 -1.31,7.29 ; -1.31,8.71 -1.31,11.29 ; -1.31,12.71 -1.31,15.29 ; -1.31,16.71 -1.31,19.29 ; -1.31,20.71 -1.31,23.29 ; -1.31,24.71 -1.31,27.29 ; -1.31,28.71 -1.31,31.29 ; -1.31,32.71 -1.31,35.29 ; -1.31,36.71 -1.31,39.36 1.31,39.36 1.31,38.71 2.54,38.71 ; 1.31,-37.29 1.31,-34.71 ; 1.31,-33.29 1.31,-30.71 ; 1.31,-29.29 1.31,-26.71 ; 1.31,-25.29 1.31,-22.71 ; 1.31,-21.29 1.31,-18.71 ; 1.31,-17.29 1.31,-14.71 ; 1.31,-13.29 1.31,-10.71 ; 1.31,-9.29 1.31,-6.71 ; 1.31,-5.29 1.31,-2.71 ; 1.31,-1.29 1.31,1.29 ; 1.31,2.71 1.31,5.29 ; 1.31,6.71 1.31,9.29 ; 1.31,10.71 1.31,13.29 ; 1.31,14.71 1.31,17.29 ; 1.31,18.71 1.31,21.29 ; 1.31,22.71 1.31,25.29 ; 1.31,26.71 1.31,29.29 ; 1.31,30.71 1.31,33.29 ; 1.31,34.71 1.31,37.29
Top Assembly:
  lines w0.254: -1.25,-36.25 -2.1,-36.25 -2.1,-35.75 -1.25,-35.75 ; -1.25,-32.25 -2.1,-32.25 -2.1,-31.75 -1.25,-31.75 ; -1.25,-28.25 -2.1,-28.25 -2.1,-27.75 -1.25,-27.75 ; -1.25,-24.25 -2.1,-24.25 -2.1,-23.75 -1.25,-23.75 ; -1.25,-20.25 -2.1,-20.25 -2.1,-19.75 -1.25,-19.75 ; -1.25,-16.25 -2.1,-16.25 -2.1,-15.75 -1.25,-15.75 ; -1.25,-12.25 -2.1,-12.25 -2.1,-11.75 -1.25,-11.75 ; -1.25,-8.25 -2.1,-8.25 -2.1,-7.75 -1.25,-7.75 ; -1.25,-4.25 -2.1,-4.25 -2.1,-3.75 -1.25,-3.75 ; -1.25,-0.25 -2.1,-0.25 -2.1,0.25 -1.25,0.25 ; -1.25,3.75 -2.1,3.75 -2.1,4.25 -1.25,4.25 ; -1.25,7.75 -2.1,7.75 -2.1,8.25 -1.25,8.25 ; -1.25,11.75 -2.1,11.75 -2.1,12.25 -1.25,12.25 ; -1.25,15.75 -2.1,15.75 -2.1,16.25 -1.25,16.25 ; -1.25,19.75 -2.1,19.75 -2.1,20.25 -1.25,20.25 ; -1.25,23.75 -2.1,23.75 -2.1,24.25 -1.25,24.25 ; -1.25,27.75 -2.1,27.75 -2.1,28.25 -1.25,28.25 ; -1.25,31.75 -2.1,31.75 -2.1,32.25 -1.25,32.25 ; -1.25,35.75 -2.1,35.75 -2.1,36.25 -1.25,36.25 ; 1.25,-38.25 2.1,-38.25 2.1,-37.75 1.25,-37.75 ; 1.25,-34.25 2.1,-34.25 2.1,-33.75 1.25,-33.75 ; 1.25,-30.25 2.1,-30.25 2.1,-29.75 1.25,-29.75 ; 1.25,-26.25 2.1,-26.25 2.1,-25.75 1.25,-25.75 ; 1.25,-22.25 2.1,-22.25 2.1,-21.75 1.25,-21.75 ; 1.25,-18.25 2.1,-18.25 2.1,-17.75 1.25,-17.75 ; 1.25,-14.25 2.1,-14.25 2.1,-13.75 1.25,-13.75 ; 1.25,-10.25 2.1,-10.25 2.1,-9.75 1.25,-9.75 ; 1.25,-6.25 2.1,-6.25 2.1,-5.75 1.25,-5.75 ; 1.25,-2.25 2.1,-2.25 2.1,-1.75 1.25,-1.75 ; 1.25,1.75 2.1,1.75 2.1,2.25 1.25,2.25 ; 1.25,5.75 2.1,5.75 2.1,6.25 1.25,6.25 ; 1.25,9.75 2.1,9.75 2.1,10.25 1.25,10.25 ; 1.25,13.75 2.1,13.75 2.1,14.25 1.25,14.25 ; 1.25,17.75 2.1,17.75 2.1,18.25 1.25,18.25 ; 1.25,21.75 2.1,21.75 2.1,22.25 1.25,22.25 ; 1.25,25.75 2.1,25.75 2.1,26.25 1.25,26.25 ; 1.25,29.75 2.1,29.75 2.1,30.25 1.25,30.25 ; 1.25,33.75 2.1,33.75 2.1,34.25 1.25,34.25 ; 1.25,37.75 2.1,37.75 2.1,38.25 1.25,38.25 ; -1.25,-39.3 1.25,-39.3 1.25,38.675 0.625,39.3 -1.25,39.3 -1.25,-39.3
  text "'.Designator'" at 0.84,-4.047 h1
Top Courtyard:
  lines w0.254: -3.1,-39.8 3.1,-39.8 3.1,39.8 -3.1,39.8 -3.1,-39.8
Top Designator:
  text ".Designator" at -7.618,-0.508 h1.52

## PinSocket_1x40_P2.00mm_Horizontal [mm]
pads (40):
  rect 1.35x1.35 hole 0.8: 1(0,0)
  round 1.35 hole 0.8: 2(0,-2) 3(0,-4) 4(0,-6) 5(0,-8) 6(0,-10) 7(0,-12) 8(0,-14) 9(0,-16) 10(0,-18) 11(0,-20) 12(0,-22) 13(0,-24) 14(0,-26) 15(0,-28) 16(0,-30) 17(0,-32) 18(0,-34) 19(0,-36) 20(0,-38) 21(0,-40) 22(0,-42) 23(0,-44) 24(0,-46) 25(0,-48) 26(0,-50) 27(0,-52) 28(0,-54) 29(0,-56) 30(0,-58) 31(0,-60) 32(0,-62) 33(0,-64) 34(0,-66) 35(0,-68) 36(0,-70) 37(0,-72) 38(0,-74) 39(0,-76) 40(0,-78)
F.SilkS:
  lines w0.254: -7.68,-77 -1.21,-77 ; -7.68,-75 -1.21,-75 ; -7.68,-73 -1.21,-73 ; -7.68,-71 -1.21,-71 ; -7.68,-69 -1.21,-69 ; -7.68,-67 -1.21,-67 ; -7.68,-65 -1.21,-65 ; -7.68,-63 -1.21,-63 ; -7.68,-61 -1.21,-61 ; -7.68,-59 -1.21,-59 ; -7.68,-57 -1.21,-57 ; -7.68,-55 -1.21,-55 ; -7.68,-53 -1.21,-53 ; -7.68,-51 -1.21,-51 ; -7.68,-49 -1.21,-49 ; -7.68,-47 -1.21,-47 ; -7.68,-45 -1.21,-45 ; -7.68,-43 -1.21,-43 ; -7.68,-41 -1.21,-41 ; -7.68,-39 -1.21,-39 ; -7.68,-37 -1.21,-37 ; -7.68,-35 -1.21,-35 ; -7.68,-33 -1.21,-33 ; -7.68,-31 -1.21,-31 ; -7.68,-29 -1.21,-29 ; -7.68,-27 -1.21,-27 ; -7.68,-25 -1.21,-25 ; -7.68,-23 -1.21,-23 ; -7.68,-21 -1.21,-21 ; -7.68,-19 -1.21,-19 ; -7.68,-17 -1.21,-17 ; -7.68,-15 -1.21,-15 ; -7.68,-13 -1.21,-13 ; -7.68,-11 -1.21,-11 ; -7.68,-9 -1.21,-9 ; -7.68,-7 -1.21,-7 ; -7.68,-5 -1.21,-5 ; -7.68,-3 -1.21,-3 ; -7.68,-1 -1.21,-1 ; -7.68,-0.886 -1.21,-0.886 ; -7.68,-0.772 -1.21,-0.772 ; -7.68,-0.658 -1.21,-0.658 ; -7.68,-0.544 -1.21,-0.544 ; -7.68,-0.429 -1.21,-0.429 ; -7.68,-0.315 -1.21,-0.315 ; -7.68,-0.201 -1.21,-0.201 ; -7.68,-0.087 -1.21,-0.087 ; -7.68,0.027 -1.21,0.027 ; -7.68,0.141 -1.21,0.141 ; -7.68,0.255 -1.21,0.255 ; -7.68,0.369 -1.21,0.369 ; -7.68,0.484 -1.21,0.484 ; -7.68,0.598 -1.21,0.598 ; -7.68,0.712 -1.21,0.712 ; -7.68,0.826 -1.21,0.826 ; -7.68,0.94 -1.21,0.94 ; -1.21,-78.36 -0.863,-78.36 ; -1.21,-77.64 -0.863,-77.64 ; -1.21,-76.36 -0.863,-76.36 ; -1.21,-75.64 -0.863,-75.64 ; -1.21,-74.36 -0.863,-74.36 ; -1.21,-73.64 -0.863,-73.64 ; -1.21,-72.36 -0.863,-72.36 ; -1.21,-71.64 -0.863,-71.64 ; -1.21,-70.36 -0.863,-70.36 ; -1.21,-69.64 -0.863,-69.64 ; -1.21,-68.36 -0.863,-68.36 ; -1.21,-67.64 -0.863,-67.64 ; -1.21,-66.36 -0.863,-66.36 ; -1.21,-65.64 -0.863,-65.64 ; -1.21,-64.36 -0.863,-64.36 ; -1.21,-63.64 -0.863,-63.64 ; -1.21,-62.36 -0.863,-62.36 ; -1.21,-61.64 -0.863,-61.64 ; -1.21,-60.36 -0.863,-60.36 ; -1.21,-59.64 -0.863,-59.64 ; -1.21,-58.36 -0.863,-58.36 ; -1.21,-57.64 -0.863,-57.64 ; -1.21,-56.36 -0.863,-56.36 ; -1.21,-55.64 -0.863,-55.64 ; -1.21,-54.36 -0.863,-54.36 ; -1.21,-53.64 -0.863,-53.64 ; -1.21,-52.36 -0.863,-52.36 ; -1.21,-51.64 -0.863,-51.64 ; -1.21,-50.36 -0.863,-50.36 ; -1.21,-49.64 -0.863,-49.64 ; -1.21,-48.36 -0.863,-48.36 ; -1.21,-47.64 -0.863,-47.64 ; -1.21,-46.36 -0.863,-46.36 ; -1.21,-45.64 -0.863,-45.64 ; -1.21,-44.36 -0.863,-44.36 ; -1.21,-43.64 -0.863,-43.64 ; -1.21,-42.36 -0.863,-42.36 ; -1.21,-41.64 -0.863,-41.64 ; -1.21,-40.36 -0.863,-40.36 ; -1.21,-39.64 -0.863,-39.64 ; -1.21,-38.36 -0.863,-38.36 ; -1.21,-37.64 -0.863,-37.64 ; -1.21,-36.36 -0.863,-36.36 ; -1.21,-35.64 -0.863,-35.64 ; -1.21,-34.36 -0.863,-34.36 ; -1.21,-33.64 -0.863,-33.64 ; -1.21,-32.36 -0.863,-32.36 ; -1.21,-31.64 -0.863,-31.64 ; -1.21,-30.36 -0.863,-30.36 ; -1.21,-29.64 -0.863,-29.64 ; -1.21,-28.36 -0.863,-28.36 ; -1.21,-27.64 -0.863,-27.64 ; -1.21,-26.36 -0.863,-26.36 ; -1.21,-25.64 -0.863,-25.64 ; -1.21,-24.36 -0.863,-24.36 ; -1.21,-23.64 -0.863,-23.64 ; -1.21,-22.36 -0.863,-22.36 ; -1.21,-21.64 -0.863,-21.64 ; -1.21,-20.36 -0.863,-20.36 ; -1.21,-19.64 -0.863,-19.64 ; -1.21,-18.36 -0.863,-18.36 ; -1.21,-17.64 -0.863,-17.64 ; -1.21,-16.36 -0.863,-16.36 ; -1.21,-15.64 -0.863,-15.64 ; -1.21,-14.36 -0.863,-14.36 ; -1.21,-13.64 -0.863,-13.64 ; -1.21,-12.36 -0.863,-12.36 ; -1.21,-11.64 -0.863,-11.64 ; -1.21,-10.36 -0.863,-10.36 ; -1.21,-9.64 -0.863,-9.64 ; -1.21,-8.36 -0.863,-8.36 ; -1.21,-7.64 -0.863,-7.64 ; -1.21,-6.36 -0.863,-6.36 ; -1.21,-5.64 -0.863,-5.64 ; -1.21,-4.36 -0.863,-4.36 ; -1.21,-3.64 -0.863,-3.64 ; -1.21,-2.36 -0.863,-2.36 ; -1.21,-1.64 -0.863,-1.64 ; -1.21,-0.36 -0.935,-0.36 ; -1.21,0.36 -0.935,0.36 ; 0,1.06 0.935,1.06 0.935,0 ; -7.68,-79.06 -1.21,-79.06 -1.21,1.06 -7.68,1.06 -7.68,-79.06
Top Assembly:
  lines w0.254: -1.27,-78.3 0,-78.3 0,-77.7 -1.27,-77.7 ; -1.27,-76.3 0,-76.3 0,-75.7 -1.27,-75.7 ; -1.27,-74.3 0,-74.3 0,-73.7 -1.27,-73.7 ; -1.27,-72.3 0,-72.3 0,-71.7 -1.27,-71.7 ; -1.27,-70.3 0,-70.3 0,-69.7 -1.27,-69.7 ; -1.27,-68.3 0,-68.3 0,-67.7 -1.27,-67.7 ; -1.27,-66.3 0,-66.3 0,-65.7 -1.27,-65.7 ; -1.27,-64.3 0,-64.3 0,-63.7 -1.27,-63.7 ; -1.27,-62.3 0,-62.3 0,-61.7 -1.27,-61.7 ; -1.27,-60.3 0,-60.3 0,-59.7 -1.27,-59.7 ; -1.27,-58.3 0,-58.3 0,-57.7 -1.27,-57.7 ; -1.27,-56.3 0,-56.3 0,-55.7 -1.27,-55.7 ; -1.27,-54.3 0,-54.3 0,-53.7 -1.27,-53.7 ; -1.27,-52.3 0,-52.3 0,-51.7 -1.27,-51.7 ; -1.27,-50.3 0,-50.3 0,-49.7 -1.27,-49.7 ; -1.27,-48.3 0,-48.3 0,-47.7 -1.27,-47.7 ; -1.27,-46.3 0,-46.3 0,-45.7 -1.27,-45.7 ; -1.27,-44.3 0,-44.3 0,-43.7 -1.27,-43.7 ; -1.27,-42.3 0,-42.3 0,-41.7 -1.27,-41.7 ; -1.27,-40.3 0,-40.3 0,-39.7 -1.27,-39.7 ; -1.27,-38.3 0,-38.3 0,-37.7 -1.27,-37.7 ; -1.27,-36.3 0,-36.3 0,-35.7 -1.27,-35.7 ; -1.27,-34.3 0,-34.3 0,-33.7 -1.27,-33.7 ; -1.27,-32.3 0,-32.3 0,-31.7 -1.27,-31.7 ; -1.27,-30.3 0,-30.3 0,-29.7 -1.27,-29.7 ; -1.27,-28.3 0,-28.3 0,-27.7 -1.27,-27.7 ; -1.27,-26.3 0,-26.3 0,-25.7 -1.27,-25.7 ; -1.27,-24.3 0,-24.3 0,-23.7 -1.27,-23.7 ; -1.27,-22.3 0,-22.3 0,-21.7 -1.27,-21.7 ; -1.27,-20.3 0,-20.3 0,-19.7 -1.27,-19.7 ; -1.27,-18.3 0,-18.3 0,-17.7 -1.27,-17.7 ; -1.27,-16.3 0,-16.3 0,-15.7 -1.27,-15.7 ; -1.27,-14.3 0,-14.3 0,-13.7 -1.27,-13.7 ; -1.27,-12.3 0,-12.3 0,-11.7 -1.27,-11.7 ; -1.27,-10.3 0,-10.3 0,-9.7 -1.27,-9.7 ; -1.27,-8.3 0,-8.3 0,-7.7 -1.27,-7.7 ; -1.27,-6.3 0,-6.3 0,-5.7 -1.27,-5.7 ; -1.27,-4.3 0,-4.3 0,-3.7 -1.27,-3.7 ; -1.27,-2.3 0,-2.3 0,-1.7 -1.27,-1.7 ; -1.27,-0.3 0,-0.3 0,0.3 -1.27,0.3 ; -1.27,0.3 -1.27,-79 -7.62,-79 -7.62,1 -1.97,1 -1.27,0.3
  text "'.Designator'" at -3.605,-43.047 h1
Top Courtyard:
  lines w0.254: -8.15,-79.5 1.5,-79.5 1.5,1.5 -8.15,1.5 -8.15,-79.5
Top Designator:
  text ".Designator" at -10.943,-39.508 h1.52

## PinSocket_1x40_P2.00mm_Vertical [mm]
pads (40):
  rect 1.35x1.35 hole 0.8: 1(0,0)
  round 1.35 hole 0.8: 2(0,-2) 3(0,-4) 4(0,-6) 5(0,-8) 6(0,-10) 7(0,-12) 8(0,-14) 9(0,-16) 10(0,-18) 11(0,-20) 12(0,-22) 13(0,-24) 14(0,-26) 15(0,-28) 16(0,-30) 17(0,-32) 18(0,-34) 19(0,-36) 20(0,-38) 21(0,-40) 22(0,-42) 23(0,-44) 24(0,-46) 25(0,-48) 26(0,-50) 27(0,-52) 28(0,-54) 29(0,-56) 30(0,-58) 31(0,-60) 32(0,-62) 33(0,-64) 34(0,-66) 35(0,-68) 36(0,-70) 37(0,-72) 38(0,-74) 39(0,-76) 40(0,-78)
F.SilkS:
  lines w0.254: 0,1.06 1.06,1.06 1.06,0 ; -1.06,-79.06 1.06,-79.06 1.06,-1 -1.06,-1 -1.06,-79.06
Top Assembly:
  lines w0.254: -1,-79 1,-79 1,0.5 0.5,1 -1,1 -1,-79
  text "'.Designator'" at 0.84,-43.047 h1
Top Courtyard:
  lines w0.254: -1.5,-79.5 1.5,-79.5 1.5,1.5 -1.5,1.5 -1.5,-79.5
Top Designator:
  text ".Designator" at -7.618,-39.508 h1.52